# EAGLE library part MCP2515 (library RobThePyro)
MCP2515 CAN Controller by Microchip
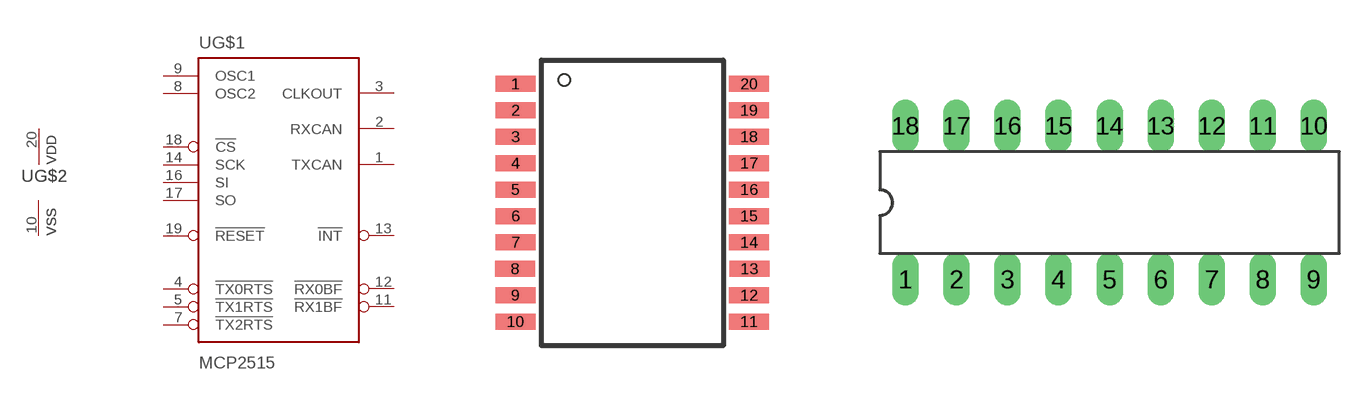
[diagram p10: symbol with the pads of TSSOP20; footprints TSSOP20, DIL18]

Designator prefix -; gates G$1=MCP2515 G$2=PWRN-1

## MCP2515ST  [TSSOP20]
1  G$1:TXCAN  out
2  G$1:RXCAN  in
3  G$1:CLKOUT  out
4  G$1:!TX0RTS  in
5  G$1:!TX1RTS  in
7  G$1:!TX2RTS  in
8  G$1:OSC2  out
9  G$1:OSC1  in
10  G$2:VSS  pwr
11  G$1:!RX1BF  out
12  G$1:!RX0BF  out
13  G$1:!INT  out
14  G$1:SCK  in
16  G$1:SI  in
17  G$1:SO  out
18  G$1:!CS  in
19  G$1:!RESET  in
20  G$2:VDD  pwr

## MCP2515P  [DIL18]
1  G$1:TXCAN  out
2  G$1:RXCAN  in
3  G$1:CLKOUT  out
4  G$1:!TX0RTS  in
5  G$1:!TX1RTS  in
6  G$1:!TX2RTS  in
7  G$1:OSC2  out
8  G$1:OSC1  in
9  G$2:VSS  pwr
10  G$1:!RX1BF  out
11  G$1:!RX0BF  out
12  G$1:!INT  out
13  G$1:SCK  in
14  G$1:SI  in
15  G$1:SO  out
16  G$1:!CS  in
17  G$1:!RESET  in
18  G$2:VDD  pwr

## MCP2515SO  [SO-18W]
Pads as for DIL18

## Footprint TSSOP20 (pad centres in mm)
smd 1 x 0.4: 1 -2.937,2.693; 2 -2.937,2.032; 3 -2.937,1.372; 4 -2.937,0.712; 5 -2.937,0.051; 6 -2.937,-0.609; 7 -2.937,-1.27; 8 -2.943,-1.93; 9 -2.937,-2.59; 10 -2.937,-3.251; 11 2.905,-3.251; 12 2.905,-2.59; 13 2.911,-1.93; 14 2.905,-1.27; 15 2.905,-0.609; 16 2.905,0.051; 17 2.905,0.712; 18 2.905,1.372; 19 2.905,2.032; 20 2.905,2.693

## Footprint DIL18 (pad centres in mm)
Dual In Line package type P
drill 0.813 long: 1 -10.16,-3.81; 2 -7.62,-3.81; 3 -5.08,-3.81; 4 -2.54,-3.81; 5 0,-3.81; 6 2.54,-3.81; 7 5.08,-3.81; 8 7.62,-3.81; 9 10.16,-3.81; 10 10.16,3.81; 11 7.62,3.81; 12 5.08,3.81; 13 2.54,3.81; 14 0,3.81; 15 -2.54,3.81; 16 -5.08,3.81; 17 -7.62,3.81; 18 -10.16,3.81

## Footprint SO-18W (pad centres in mm)
Small Outline Wide Plastic Gull Wing 300-mil body, package type SO
smd 0.762 x 1.143: 1 -5.08,-4.788; 2 -3.81,-4.788; 3 -2.54,-4.788; 4 -1.27,-4.788; 5 0,-4.788; 6 1.27,-4.788; 7 2.54,-4.788; 8 3.81,-4.788; 9 5.08,-4.788; 10 5.08,4.788; 11 3.81,4.788; 12 2.54,4.788; 13 1.27,4.788; 14 0,4.788; 15 -1.27,4.788; 16 -2.54,4.788; 17 -3.81,4.788; 18 -5.08,4.788